# EAGLE library part WBZ451PE-I (library 2024-05-29_22-27-45_Library)
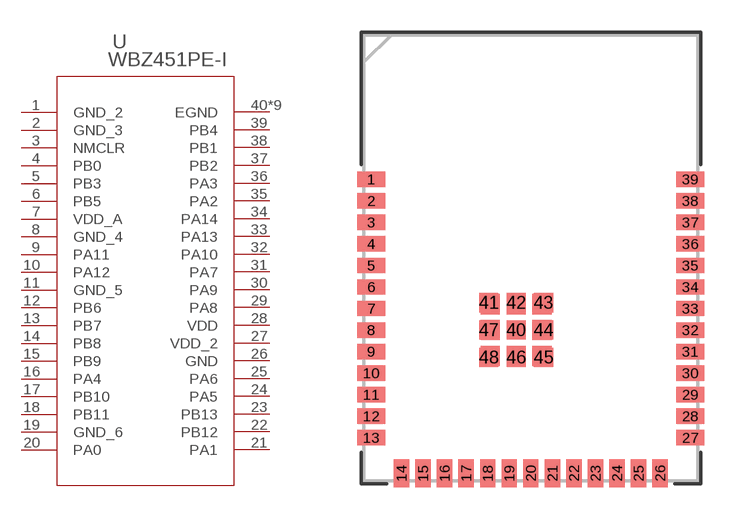
[diagram p0: symbol with the pads of WBZ451_MCH; footprint WBZ451_MCH]

Designator prefix U

## WBZ451PE-IWBZ451_MCH (COPYRIGHT: Copyright (C) 2024 Ultra Librarian. All rights reserved.; MANUFACTURER_PART_NUMBER: WBZ451PE-I; MFR_NAME: Microchip)  [WBZ451_MCH]
1  GND_2  pas
2  GND_3  pas
3  NMCLR  in
4  PB0
5  PB3
6  PB5
7  VDD_A  pwr
8  GND_4  pas
9  PA11
10  PA12
11  GND_5  pas
12  PB6
13  PB7
14  PB8
15  PB9
16  PA4
17  PB10
18  PB11
19  GND_6  pas
20  PA0
21  PA1
22  PB12
23  PB13
24  PA5
25  PA6
26  GND  pas
27  VDD_2  pwr
28  VDD  pwr
29  PA8
30  PA9
31  PA7
32  PA10
33  PA13
34  PA14
35  PA2
36  PA3
37  PB2
38  PB1
39  PB4
40  EGND  pas
41  EGND  pas
42  EGND  pas
43  EGND  pas
44  EGND  pas
45  EGND  pas
46  EGND  pas
47  EGND  pas
48  EGND  pas

## Footprint WBZ451_MCH (pad centres in mm)
smd 1.295 x 0.711: 1 -7.4,3.65; 2 -7.4,2.65; 3 -7.4,1.65; 4 -7.4,0.65; 5 -7.4,-0.35; 6 -7.4,-1.35; 7 -7.4,-2.35; 8 -7.4,-3.35; 9 -7.4,-4.35; 10 -7.4,-5.35; 11 -7.4,-6.35; 12 -7.4,-7.35; 13 -7.4,-8.35; 27 7.4,-8.35; 28 7.4,-7.35; 29 7.4,-6.35; 30 7.4,-5.35; 31 7.4,-4.35; 32 7.4,-3.35; 33 7.4,-2.35; 34 7.4,-1.35; 35 7.4,-0.35; 36 7.4,0.65; 37 7.4,1.65; 38 7.4,2.65; 39 7.4,3.65
smd 0.711 x 1.295: 14 -6,-10; 15 -5,-10; 16 -4,-10; 17 -3,-10; 18 -2,-10; 19 -1,-10; 20 0,-10; 21 1,-10; 22 2,-10; 23 3,-10; 24 4,-10; 25 5,-10; 26 6,-10
smd 0.889 x 0.889: 40 -0.68,-3.35; 41 -1.95,-2.08; 42 -0.68,-2.08; 43 0.59,-2.08; 44 0.59,-3.35; 45 0.59,-4.62; 46 -0.68,-4.62; 47 -1.95,-3.35; 48 -1.95,-4.62